# EAGLE library part MEGA2560PRO-MINI (library Development Boards)
Robotdyn Robotdyn Mega 2560 PRO MINI https://robotdyn.com/mega-2560-pro-mini-atmega2560-16au.html
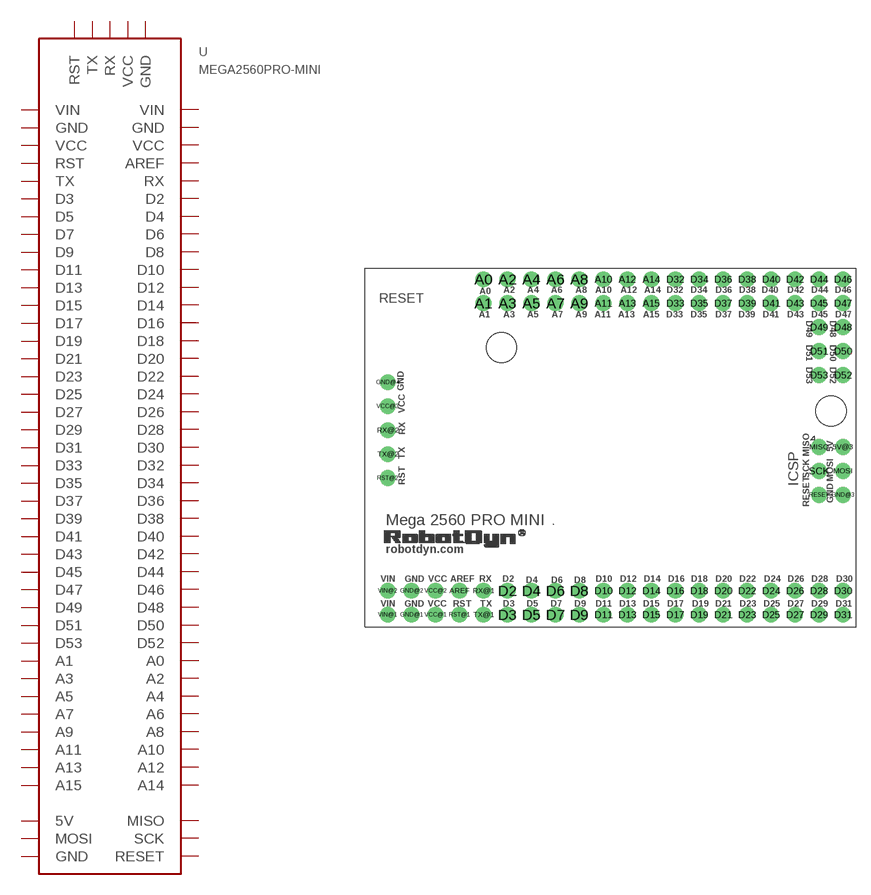
[diagram p5: symbol with the pads of MEGA2560PRO-MINI; footprint MEGA2560PRO-MINI]

Designator prefix -

## MEGA2560PRO-MINI  [MEGA2560PRO-MINI]
5V@3  5V
A0  A0
A1  A1
A2  A2
A3  A3
A4  A4
A5  A5
A6  A6
A7  A7
A8  A8
A9  A9
A10  A10
A11  A11
A12  A12
A13  A13
A14  A14
A15  A15
AREF  AREF
D2  D2
D3  D3
D4  D4
D5  D5
D6  D6
D7  D7
D8  D8
D9  D9
D10  D10
D11  D11
D12  D12
D13  D13
D14  D14
D15  D15
D16  D16
D17  D17
D18  D18
D19  D19
D20  D20
D21  D21
D22  D22
D23  D23
D24  D24
D25  D25
D26  D26
D27  D27
D28  D28
D29  D29
D30  D30
D31  D31
D32  D32
D33  D33
D34  D34
D35  D35
D36  D36
D37  D37
D38  D38
D39  D39
D40  D40
D41  D41
D42  D42
D43  D43
D44  D44
D45  D45
D46  D46
D47  D47
D48  D48
D49  D49
D50  D50
D51  D51
D52  D52
D53  D53
GND@1  GND
GND@2  GND
GND@3  GND
GND@4  GND
MISO  MISO
MOSI  MOSI
RESET  RESET
RST@1  RST
RST@2  RST
RX@1  RX
RX@2  RX
SCK  SCK
TX@1  TX
TX@2  TX
VCC@1  VCC
VCC@2  VCC
VCC@3  VCC
VIN@1  VIN
VIN@2  VIN

## Footprint MEGA2560PRO-MINI (pad centres in mm)
Robotdyn Robotdyn Mega 2560 PRO MINI https://robotdyn.com/mega-2560-pro-mini-atmega2560-16au.html
drill 0.8 pad 1.676: 5V@3 24.13,0; A0 -13.97,17.78; A1 -13.97,15.24; A2 -11.43,17.78; A3 -11.43,15.24; A4 -8.89,17.78; A5 -8.89,15.24; A6 -6.35,17.78; A7 -6.35,15.24; A8 -3.81,17.78; A9 -3.81,15.24; A10 -1.27,17.78; A11 -1.27,15.24; A12 1.27,17.78; A13 1.27,15.24; A14 3.81,17.78; A15 3.81,15.24; AREF -16.51,-15.24; D2 -11.43,-15.24; D3 -11.43,-17.78; D4 -8.89,-15.24; D5 -8.89,-17.78; D6 -6.35,-15.24; D7 -6.35,-17.78; D8 -3.81,-15.24; D9 -3.81,-17.78; D10 -1.27,-15.24; D11 -1.27,-17.78; D12 1.27,-15.24; D13 1.27,-17.78; D14 3.81,-15.24; D15 3.81,-17.78; D16 6.35,-15.24; D17 6.35,-17.78; D18 8.89,-15.24; D19 8.89,-17.78; D20 11.43,-15.24; D21 11.43,-17.78; D22 13.97,-15.24; D23 13.97,-17.78; D24 16.51,-15.24; D25 16.51,-17.78; D26 19.05,-15.24; D27 19.05,-17.78; D28 21.59,-15.24; D29 21.59,-17.78; D30 24.13,-15.24; D31 24.13,-17.78; D32 6.35,17.78; D33 6.35,15.24; D34 8.89,17.78; D35 8.89,15.24; D36 11.43,17.78; D37 11.43,15.24; D38 13.97,17.78; D39 13.97,15.24; D40 16.51,17.78; D41 16.51,15.24; D42 19.05,17.78; D43 19.05,15.24; D44 21.59,17.78; D45 21.59,15.24; D46 24.13,17.78; D47 24.13,15.24; D48 24.13,12.7; D49 21.59,12.7; D50 24.13,10.16; D51 21.59,10.16; D52 24.13,7.62; D53 21.59,7.62; GND@1 -21.59,-17.78; GND@2 -21.59,-15.24; GND@3 24.13,-5.08; GND@4 -24.13,6.858; MISO 21.59,0; MOSI 24.13,-2.54; RESET 21.59,-5.08; RST@1 -16.51,-17.78; RST@2 -24.13,-3.302; RX@1 -13.97,-15.24; RX@2 -24.13,1.778; SCK 21.59,-2.54; TX@1 -13.97,-17.78; TX@2 -24.13,-0.762; VCC@1 -19.05,-17.78; VCC@2 -19.05,-15.24; VCC@3 -24.13,4.318; VIN@1 -24.13,-17.78; VIN@2 -24.13,-15.24
hole 3.2 at 22.86,3.81
hole 3.2 at -12.065,10.541